# EAGLE library part LM3401 (library seb)
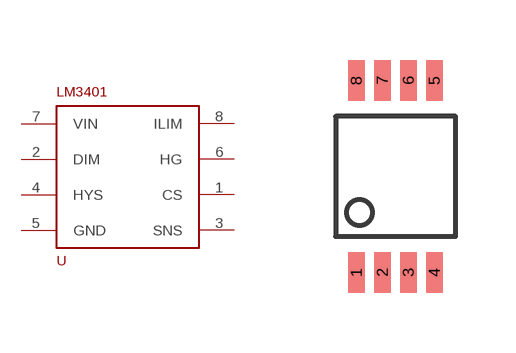
[diagram p17: symbol with the pads of MSOP8; footprint MSOP8]

Designator prefix -

## LM3401  [MSOP8]
1  CS
2  DIM
3  SNS
4  HYS
5  GND
6  HG
7  VIN
8  ILIM

## Footprint MSOP8 (pad centres in mm)
smd 0.41 x 1.02: 1 -0.975,-2.4; 2 -0.325,-2.4; 3 0.325,-2.4; 4 0.975,-2.4; 5 0.975,2.4; 6 0.325,2.4; 7 -0.325,2.4; 8 -0.975,2.4